# EAGLE library part WRT_NODE_VERTICAL_MODULE (library BaseApp)
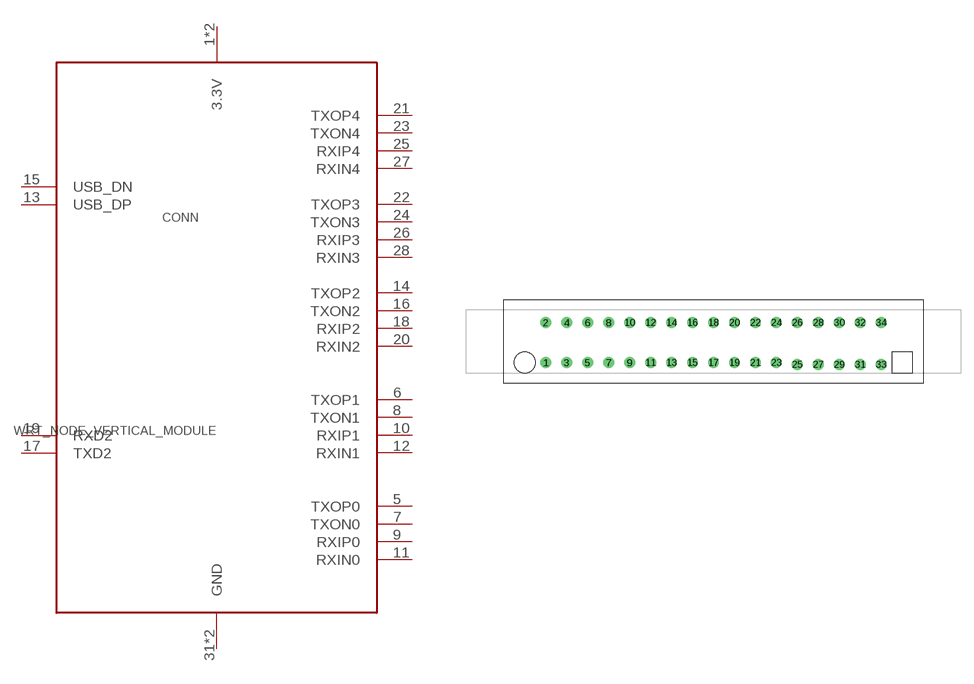
[diagram p149: symbol with the pads of WRT_NODE-VERTICAL_MODULE; footprint WRT_NODE-VERTICAL_MODULE]

Designator prefix CONN

## WRT_NODE_VERTICAL_MODULE (DIGIKEY: A101974-ND; PRICE_PER_UNIT: 1.96)  [WRT_NODE-VERTICAL_MODULE]
1  3.3V
2  3.3V
5  TXOP0
6  TXOP1
7  TXON0
8  TXON1
9  RXIP0
10  RXIP1
11  RXIN0
12  RXIN1
13  USB_DP
14  TXOP2
15  USB_DN
16  TXON2
17  TXD2
18  RXIP2
19  RXD2
20  RXIN2
21  TXOP4
22  TXOP3
23  TXON4
24  TXON3
25  RXIP4
26  RXIP3
27  RXIN4
28  RXIN3
31  GND
32  GND

## Footprint WRT_NODE-VERTICAL_MODULE (pad centres in mm)
drill 0.8: 1 -20.32,-2.54; 2 -20.32,2.311; 3 -17.78,-2.54; 4 -17.78,2.311; 5 -15.24,-2.54; 6 -15.24,2.311; 7 -12.7,-2.54; 8 -12.7,2.311; 9 -10.16,-2.54; 10 -10.16,2.311; 11 -7.62,-2.54; 12 -7.62,2.311; 13 -5.08,-2.54; 14 -5.08,2.311; 15 -2.54,-2.54; 16 -2.54,2.311; 17 0,-2.54; 18 0,2.311; 19 2.54,-2.54; 20 2.54,2.311; 21 5.08,-2.54; 22 5.08,2.311; 23 7.62,-2.54; 24 7.62,2.311; 25 10.16,-2.769; 26 10.16,2.311; 27 12.7,-2.769; 28 12.7,2.311; 29 15.24,-2.769; 30 15.24,2.311; 31 17.78,-2.769; 32 17.78,2.311; 33 20.32,-2.769; 34 20.32,2.311